# EAGLE library part 741-329 (library con-wago_741)
Stand: 01.01.2014. Die jeweils aktuellen Daten zu diesem Artikel finden Sie in unserem Produktkatalog, den Sie unter www.wago.com einsehen können. As of: 01/01/2014. Please find the newest data for this article in our product catalogue, which can be viewed under www.wago.com.
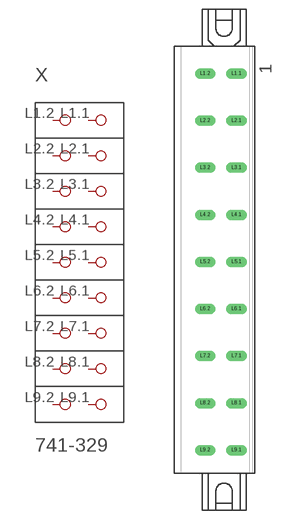
[diagram p39: symbol with the pads of P-741-329; footprint P-741-329]

Designator prefix X

## 741-329  [P-741-329]
L1.1  P1.1
L1.2  P1.2
L2.1  P2.1
L2.2  P2.2
L3.1  P3.1
L3.2  P3.2
L4.1  P4.1
L4.2  P4.2
L5.1  P5.1
L5.2  P5.2
L6.1  P6.1
L6.2  P6.2
L7.1  P7.1
L7.2  P7.2
L8.1  P8.1
L8.2  P8.2
L9.1  P9.1
L9.2  P9.2

## Footprint P-741-329 (pad centres in mm)
drill 1.1 long: L1.1 3.5,29.65; L1.2 -1.5,29.65; L2.1 3.5,22.15; L2.2 -1.5,22.15; L3.1 3.5,14.65; L3.2 -1.5,14.65; L4.1 3.5,7.15; L4.2 -1.5,7.15; L5.1 3.5,-0.35; L5.2 -1.5,-0.35; L6.1 3.5,-7.85; L6.2 -1.5,-7.85; L7.1 3.5,-15.35; L7.2 -1.5,-15.35; L8.1 3.5,-22.85; L8.2 -1.5,-22.85; L9.1 3.5,-30.35; L9.2 -1.5,-30.35